# Altium schematic symbol library NVTFS5C673NLTAG.SchLib: 1 symbol
Pins are listed as number, name and electrical type; pins without a type are passive.

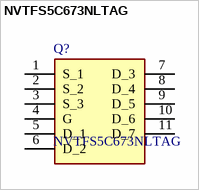
[diagram p0: symbol NVTFS5C673NLTAG]

## NVTFS5C673NLTAG
designator Q?
Trans MOSFET N-CH 60V 13A Automotive 8-Pin WDFN EP T/R; Manufacturer_Name: onsemi; Geometry.Height: 0.8mm; Manufacturer_Part_Number: NVTFS5C673NLTAG; Mouser Part Number: 863-NVTFS5C673NLTAG; Mouser Price/Stock: https://www.mouser.co.uk/ProductDetail/ON-Semiconductor/NVTFS5C673NLTAG?qs=5aG0NVq1C4w4bkBmZ0y2Ug%3D%3D; Arrow Part Number: NVTFS5C673NLTAG; Arrow Price/Stock: https://www.arrow.com/en/products/nvtfs5c673nltag/on-semiconductor; Datasheet Link: https://www.onsemi.com/pdf/datasheet/nvtfs5c673nl-d.pdf
footprint NVTFS5C673NLTAG
pins: 1 S_1, 2 S_2, 3 S_3, 4 G, 5 D_1, 6 D_2, 7 D_3, 8 D_4, 9 D_5, 10 D_6, 11 D_7